# Altium schematic symbol library SchlibV0.1.SchLib: 47 symbols
Pins are listed as number, name and electrical type; pins without a type are passive.

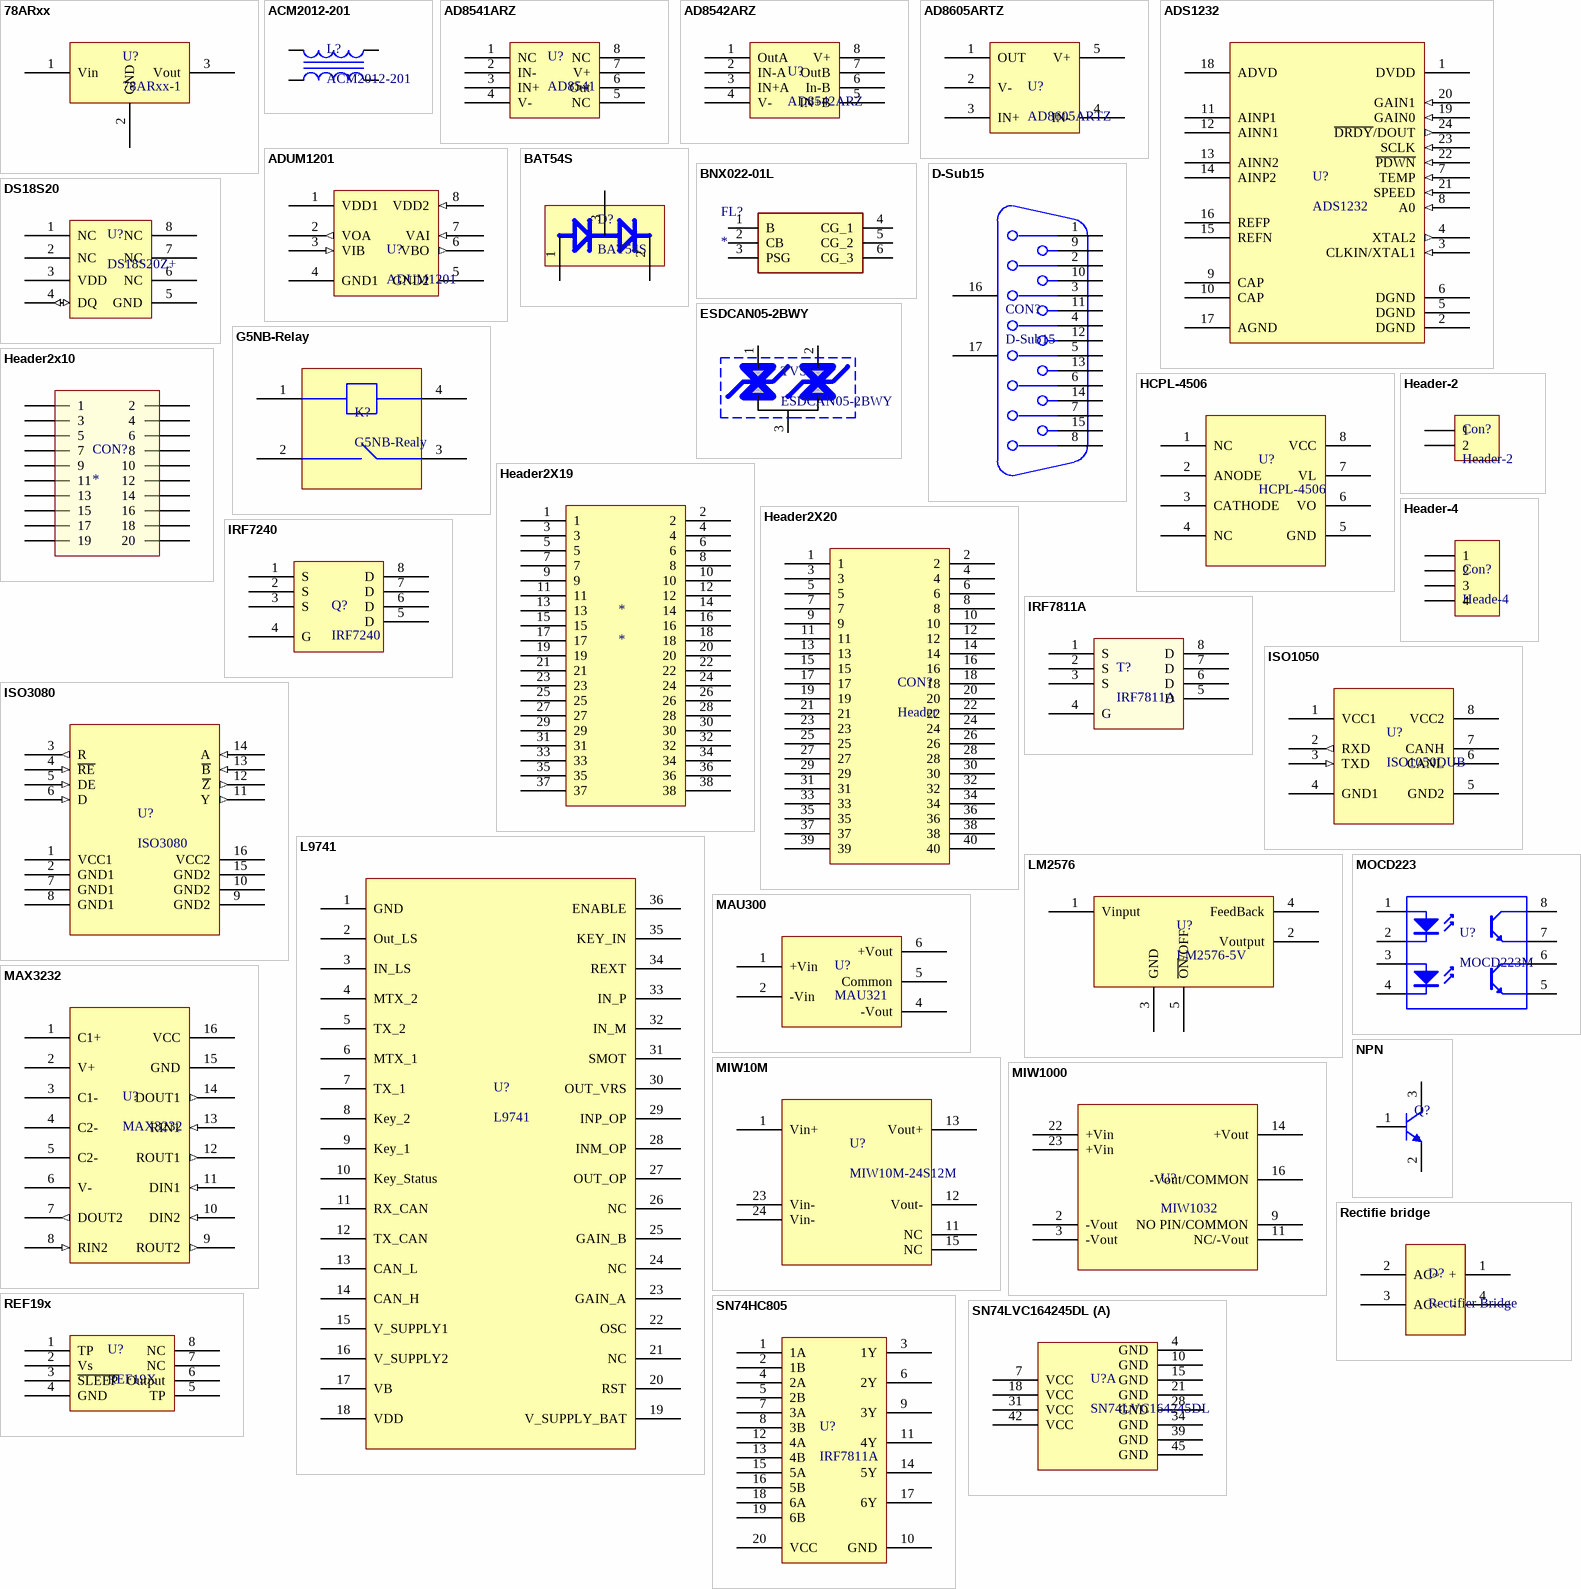
[diagram p0: symbols 78ARxx to SN74LVC164245DL]

## 78ARxx
designator U?, comment 78ARxx-1
footprint 78ARxx-1
pins: 1 Vin, 2 GND, 3 Vout

## ACM2012-201
designator L?
Common mode filters / For high-speed differential signal line
footprint CMF1812
pins: 1, 1, 2, 2

## AD8541ARZ
designator U?, comment AD8541
rail-to-rail input and output, single-supply amplifiers featuring very low supply current and 1 MHz bandwidth. All are guaranteed to operate from a 2.7 V single supply as well as a 5 V supply.
footprint SO-8
pins: 1 NC, 2 IN-, 3 IN+, 4 V-, 5 NC, 6 Out, 7 V+, 8 NC

## AD8542ARZ
designator U?
dual rail-to-rail input and output, single-supply amplifiers
footprint SO-8
pins: 1 OutA, 2 IN-A, 3 IN+A, 4 V-, 5 IN+B, 6 In-B, 7 OutB, 8 V+

## AD8605ARTZ
designator U?
footprint SOT-23-5-N
pins: 1 OUT, 2 V-, 3 IN+, 4 IN-, 5 V+

## ADS1232
designator U?
ADC 24Bit For Bridge Sensors
pins: 1  DVDD, 2 DGND, 3 CLKIN/XTAL1 (in), 4 XTAL2 (out), 5 DGND, 6 DGND, 7 TEMP (in), 8 A0 (in), 9 CAP, 10 CAP, 11 AINP1, 12 AINN1, 13 AINN2, 14 AINP2, 15 REFN, 16 REFP, 17 AGND, 18 ADVD, 19 GAIN0 (in), 20 GAIN1 (in), 21 SPEED (in), 22 ~{PDWN} (in), 23 SCLK (in), 24 ~{DRDY}/DOUT (out)

## ADUM1201
designator U?
Dual Channel Digital Isolators
footprint SO-8
pins: 1 VDD1 (power), 2 VOA (out), 3 VIB (in), 4 GND1 (power), 5 GND2 (power), 6 VBO (out), 7 VAI (in), 8 VDD2 (in)

## BAT54S
designator D?
The BAT54 series uses 40V Schottky barrier diodes
footprint SOT-23
pins: 1, 2, 3

## BNX022-01L
designator FL?
Filter; Manufacturer_Name: Murata Electronics; Manufacturer_Part_Number: BNX022-01L; Datasheet Link: https://componentsearchengine.com/Datasheets/1/BNX022-01L.pdf; Height: 3.3mm; Mouser Part Number: 81-BNX022-01L; Mouser Price/Stock: https://www.mouser.com/Search/Refine.aspx?Keyword=81-BNX022-01L
footprint BNX02201K
pins: 1 B, 2 CB, 3 PSG, 4 CG_1, 5 CG_2, 6 CG_3

## D-Sub15
designator CON?
pins: 1, 2, 3, 4, 5, 6, 7, 8, 9, 10, 11, 12, 13, 14, 15, 16, 17

## DS18S20
designator U?, comment DS18S20Z+
High-Precision 1-Wire Digital Thermometer
footprint so-8
pins: 1 NC, 2 NC, 3 VDD, 4 DQ (io), 5 GND, 6 NC, 7 NC, 8 NC

## ESDCAN05-2BWY
designator TVS?
ESD Suppressors / TVS Diodes Automotive dual-line Transil, Transient voltage suppressor (TVS) for CAN bus
footprint SOT-23
pins: 1 2, 2, 3 2

## G5NB-Relay
designator K?, comment G5NB-Realy
A Miniature Relay with 1-pole / 3A/5A Switching Capability and / 10 kV Impulse Withstand Voltage
footprint G5NB-Relay (A Miniature Relay with 1-pole / 3A/5A Switching Capability and / 10 kV Impulse Withstand Voltage)
pins: 1, 2, 3, 4

## HCPL-4506
designator U?
Fast Opto isolator
footprint SOP-8
pins: 1 NC (power), 2 ANODE, 3 CATHODE, 4 NC (power), 5 GND (power), 6 VO, 7 VL, 8 VCC

## Header2x10
designator CON?
pins: 1, 2, 3, 4, 5, 6, 7, 8, 9, 10, 11, 12, 13, 14, 15, 16, 17, 18, 19, 20

## Header2X19
designator *
pins: 1, 2, 3, 4, 5, 6, 7, 8, 9, 10, 11, 12, 13, 14, 15, 16, 17, 18, 19, 20, 21, 22, 23, 24, 25, 26, 27, 28, 29, 30, 31, 32, 33, 34, 35, 36, 37, 38

## Header2X20
designator CON?, comment Header
footprint Header2X20
pins: 1, 2, 3, 4, 5, 6, 7, 8, 9, 10, 11, 12, 13, 14, 15, 16, 17, 18, 19, 20, 21, 22, 23, 24, 25, 26, 27, 28, 29, 30, 31, 32, 33, 34, 35, 36, 37, 38, 39, 40

## Header-2
designator Con?
pins: 1, 2

## Header-4
designator Con?, comment Heade-4
pins: 1, 2, 3, 4

## IRF7240
designator Q?
Mosfet P-Channel 40V 10A
footprint SO-8
pins: 1 S, 2 S, 3 S, 4 G, 5 D, 6 D, 7 D, 8 D

## IRF7811A
designator T?
HEXFET power MOSFETs
footprint SO-8
pins: 1 S, 2 S, 3 S, 4 G, 5 D, 6 D, 7 D, 8 D

## ISO1050
designator U?, comment ISO1050DUB
Isolated CAN Transciever
footprint SOP-8
pins: 1 VCC1 (power), 2 RXD (out), 3 TXD (in), 4 GND1 (power), 5 GND2 (power), 6 CANL, 7 CANH, 8 VCC2

## ISO3080
designator U?
ISO308x Isolated 5-V Full- and Half-Duplex RS-485 Transceivers
footprint SO-16W (Footprint not found)
pins: 1 VCC1, 2 GND1, 3 R (out), 4 ~{RE} (in), 5 DE (in), 6 D (in), 7 GND1, 8 GND1, 9 GND2, 10 GND2, 11 Y (out), 12 ~{Z} (out), 13 ~{B} (in), 14 A (in), 15 GND2, 16 VCC2

## L9741
designator U?
pins: 1 GND, 2 Out_LS, 3 IN_LS, 4 MTX_2, 5 TX_2, 6 MTX_1, 7 TX_1, 8 Key_2, 9 Key_1, 10 Key_Status, 11 RX_CAN, 12 TX_CAN, 13 CAN_L, 14 CAN_H, 15 V_SUPPLY1, 16 V_SUPPLY2, 17 VB, 18 VDD, 19 V_SUPPLY_BAT, 20 RST, 21 NC, 22 OSC, 23 GAIN_A, 24 NC, 25 GAIN_B, 26 NC, 27 OUT_OP, 28 INM_OP, 29 INP_OP, 30 OUT_VRS, 31 SMOT, 32 IN_M, 33 IN_P, 34 REXT, 35 KEY_IN, 36 ENABLE

## LM2576
designator U?, comment LM2576-5V
pins: 1 Vinput, 2 Voutput, 3 GND, 4 FeedBack, 5 ~{ON}/OFF

## MAU300
designator U?, comment MAU321
24V to 3.3V DC Convertor
footprint MAU300
pins: 1 +Vin, 2 -Vin, 4 -Vout, 5 Common, 6 +Vout

## MAX3232
designator U?
3.3V RS232 Transeiver
footprint SO-16
pins: 1 C1+, 2 V+, 3 C1-, 4 C2-, 5 C2-, 6 V-, 7 DOUT2 (out), 8 RIN2 (in), 9 ROUT2 (out), 10 DIN2 (in), 11 DIN1 (in), 12 ROUT1 (out), 13 RIN1 (in), 14 DOUT1 (out), 15 GND, 16 VCC

## MIW10M
designator U?, comment MIW10M-24S12M
DC-DC CONVERTER 10W
footprint MIW10M
pins: 1 Vin+, 11 NC, 12 Vout-, 13 Vout+, 15 NC, 23 Vin-, 24 Vin-

## MIW1000
designator U?, comment MIW1032
24V to5 DC Covertor
footprint MIW1000
pins: 2 -Vout, 3 -Vout, 9 NO PIN/COMMON, 11 NC/-Vout, 14 +Vout, 16 -Vout/COMMON, 22 +Vin, 23 +Vin

## MOCD223
designator U?, comment MOCD223M
8-pin SOIC Darlington Output Optocoupler
footprint so-8
pins: 1 "Anode", 2 "Cathode", 3 "Anode", 4 "Cathode", 5 "Emitter", 6 "Collector", 7 "Emitter", 8 "Collector"

## NPN
designator Q?
footprint SOT-23
pins: 1 B, 2 E, 3 C

## Rectifie bridge
designator D?, comment Rectifier Bridge
footprint Rectifiear
pins: 1 +, 2 AC~, 3 AC~, 4 -

## REF19x
designator U?, comment REF19X
Precision Micropower, / Low Dropout Voltage References
footprint SO-8
pins: 1 TP, 2 Vs, 3 ~{SLEEP}, 4 GND, 5 TP, 6 Output, 7 NC, 8 NC

## SN74HC805
designator U?, comment IRF7811A
Six independent 2-input NOR
footprint So-20
pins: 1 1A, 2 1B, 3 1Y, 4 2A, 5 2B, 6 2Y, 7 3A, 8 3B, 9 3Y, 10 GND, 11 4Y, 12 4A, 13 4B, 14 5Y, 15 5A, 16 5B, 17 6Y, 18 6A, 19 6B, 20 VCC

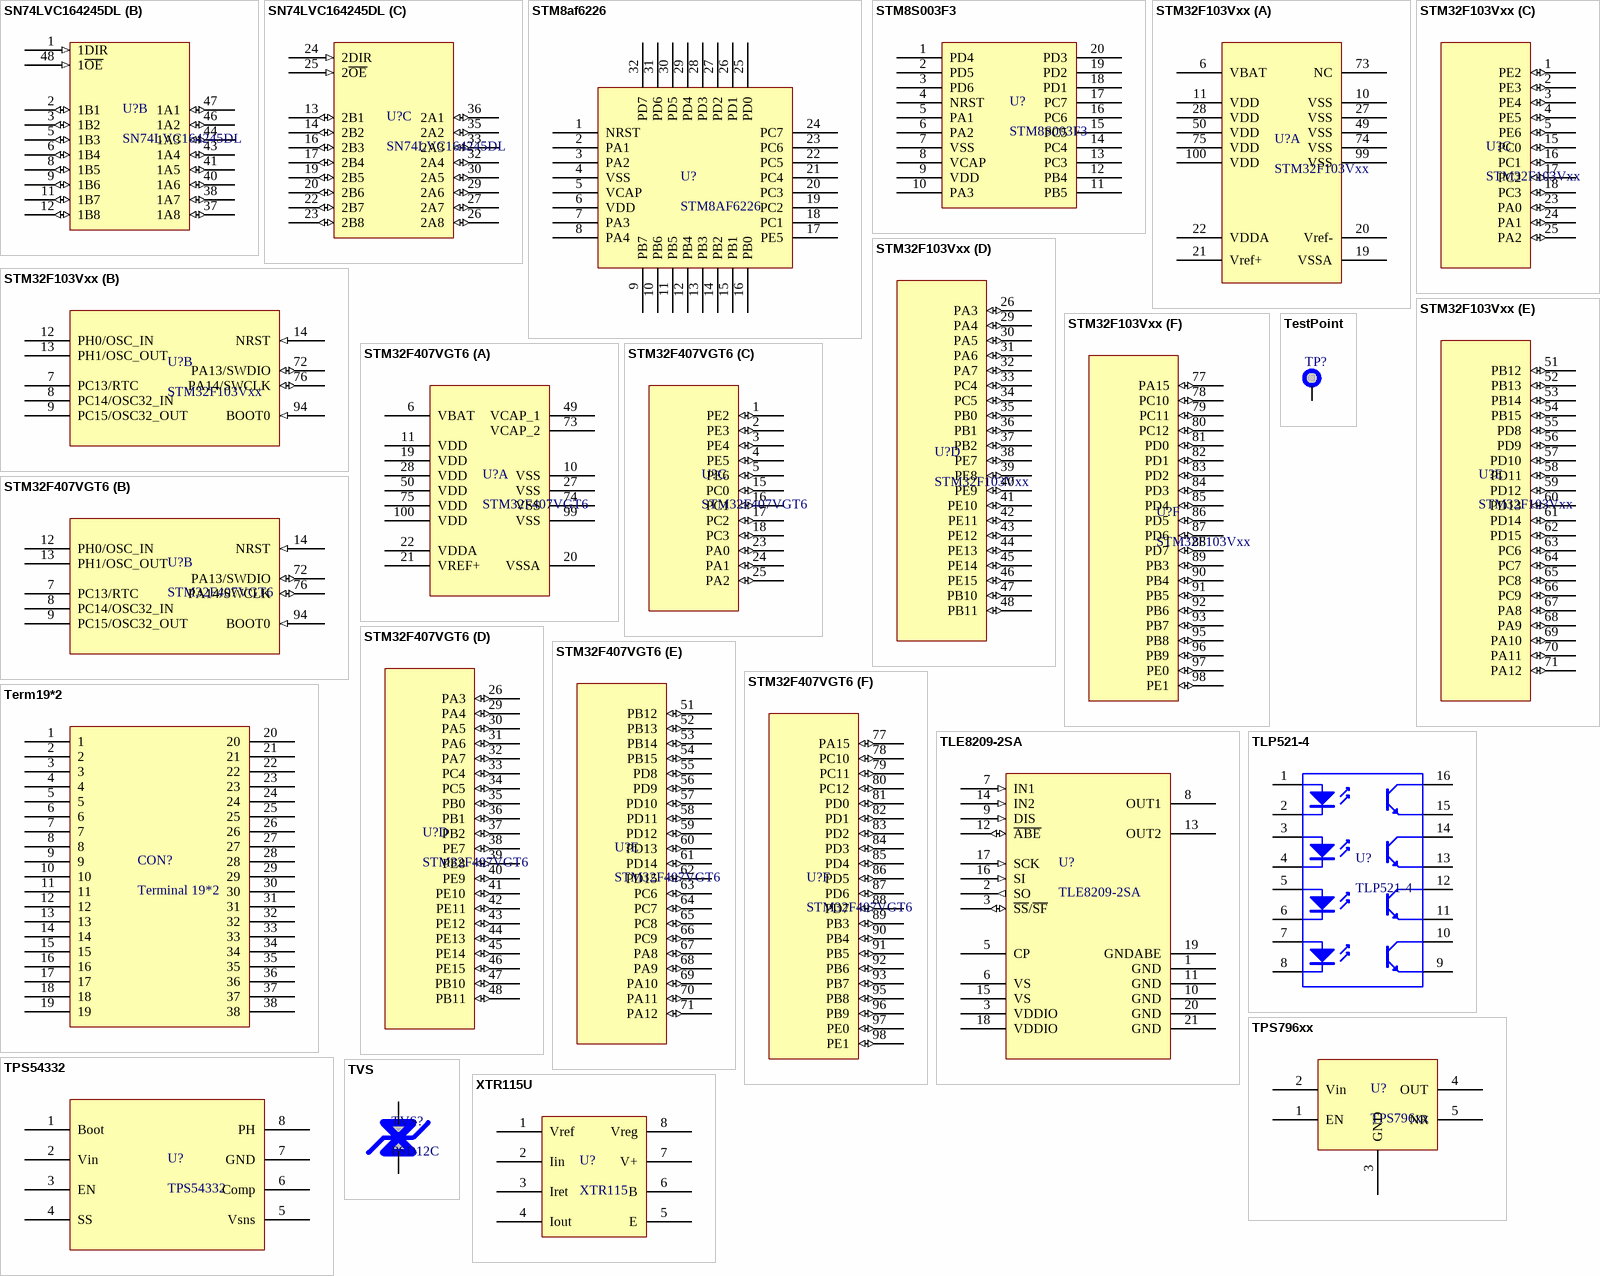
[diagram p1: symbols SN74LVC164245DL to XTR115U]

## SN74LVC164245DL
designator U?
This 16-bit (dual-octal) noninverting bus transceiver is designed for 1.65-V to 3.6-V VCC operation. The SN74LVC16245A device is designed for asynchronous communication between data buses.
footprint SSOP-48 (Footprint not found)
footprint SSOP-48
part A pins: 4 GND, 7 VCC, 10 GND, 15 GND, 18 VCC, 21 GND, 28 GND, 31 VCC, 34 GND, 39 GND, 42 VCC, 45 GND
part B pins: 1 1DIR (in), 2 1B1 (io), 3 1B2 (io), 5 1B3 (io), 6 1B4 (io), 8 1B5 (io), 9 1B6 (io), 11 1B7 (io), 12 1B8 (io), 37 1A8 (io), 38 1A7 (io), 40 1A6 (io), 41 1A5 (io), 43 1A4 (io), 44 1A3 (io), 46 1A2 (io), 47 1A1 (io), 48 1~{OE} (in)
part C pins: 13 2B1 (io), 14 2B2 (io), 16 2B3 (io), 17 2B4 (io), 19 2B5 (io), 20 2B6 (io), 22 2B7 (io), 23 2B8 (io), 24 2DIR (in), 25 2~{OE} (in), 26 2A8 (io), 27 2A7 (io), 29 2A6 (io), 30 2A5 (io), 32 2A4 (io), 33 2A3 (io), 35 2A2 (io), 36 2A1 (io)

## STM8af6226
designator U?, comment STM8AF6226
pins: 1 NRST, 2 PA1, 3 PA2, 4 VSS, 5 VCAP, 6 VDD, 7 PA3, 8 PA4, 9 PB7, 10 PB6, 11 PB5, 12 PB4, 13 PB3, 14 PB2, 15 PB1, 16 PB0, 17 PE5, 18 PC1, 19 PC2, 20 PC3, 21 PC4, 22 PC5, 23 PC6, 24 PC7, 25 PD0, 26 PD1, 27 PD2, 28 PD3, 29 PD4, 30 PD5, 31 PD6, 32 PD7

## STM8S003F3
designator U?
footprint SOP-24
pins: 1 PD4, 2 PD5, 3 PD6, 4 NRST, 5 PA1, 6 PA2, 7 VSS, 8 VCAP, 9 VDD, 10 PA3, 11 PB5, 12 PB4, 13 PC3, 14 PC4, 15 PC5, 16 PC6, 17 PC7, 18 PD1, 19 PD2, 20 PD3

## STM32F103Vxx
designator U?
part A pins: 6 VBAT (power), 10 VSS (power), 11 VDD (power), 19 VSSA (power), 20 Vref- (power), 21 Vref+ (power), 22 VDDA (power), 27 VSS (power), 28 VDD, 49 VSS (power), 50 VDD, 73 NC (power), 74 VSS (power), 75 VDD, 99 VSS (power), 100 VDD
part B pins: 7 PC13/RTC, 8 PC14/OSC32_IN, 9 PC15/OSC32_OUT, 12 PH0/OSC_IN, 13 PH1/OSC_OUT, 14 NRST (in), 72 PA13/SWDIO (io), 76 PA14/SWCLK (io), 94 BOOT0 (in)
part C pins: 1 PE2 (io), 2 PE3 (io), 3 PE4 (io), 4 PE5 (io), 5 PE6 (io), 15 PC0 (io), 16 PC1 (io), 17 PC2 (io), 18 PC3 (io), 23 PA0 (io), 24 PA1 (io), 25 PA2 (io)
part D pins: 26 PA3 (io), 29 PA4 (io), 30 PA5 (io), 31 PA6 (io), 32 PA7 (io), 33 PC4 (io), 34 PC5 (io), 35 PB0 (io), 36 PB1 (io), 37 PB2 (io), 38 PE7 (io), 39 PE8 (io), 40 PE9 (io), 41 PE10 (io), 42 PE11 (io), 43 PE12 (io), 44 PE13 (io), 45 PE14 (io), 46 PE15 (io), 47 PB10 (io), 48 PB11 (io)
part E pins: 51 PB12 (io), 52 PB13 (io), 53 PB14 (io), 54 PB15 (io), 55 PD8 (io), 56 PD9 (io), 57 PD10 (io), 58 PD11 (io), 59 PD12 (io), 60 PD13 (io), 61 PD14 (io), 62 PD15 (io), 63 PC6 (io), 64 PC7 (io), 65 PC8 (io), 66 PC9 (io), 67 PA8 (io), 68 PA9 (io), 69 PA10 (io), 70 PA11 (io), 71 PA12 (io)
part F pins: 77 PA15 (io), 78 PC10 (io), 79 PC11 (io), 80 PC12 (io), 81 PD0 (io), 82 PD1 (io), 83 PD2 (io), 84 PD3 (io), 85 PD4 (io), 86 PD5 (io), 87 PD6 (io), 88 PD7 (io), 89 PB3 (io), 90 PB4 (io), 91 PB5 (io), 92 PB6 (io), 93 PB7 (io), 95 PB8 (io), 96 PB9 (io), 97 PE0 (io), 98 PE1 (io)

## STM32F407VGT6
designator U?
STM32F407VGT FPU 168MHz
footprint LQFP-100 (Thin QFP, 100-Leads, Body 14x14mm, Pitch 0.5mm, IPC Medium Density)
part A pins: 6 VBAT (power), 10 VSS (power), 11 VDD (power), 19 VDD (power), 20 VSSA (power), 21 VREF+ (power), 22 VDDA (power), 27 VSS (power), 28 VDD, 49 VCAP_1 (power), 50 VDD, 73 VCAP_2 (power), 74 VSS (power), 75 VDD, 99 VSS (power), 100 VDD
part B pins: 7 PC13/RTC, 8 PC14/OSC32_IN, 9 PC15/OSC32_OUT, 12 PH0/OSC_IN, 13 PH1/OSC_OUT, 14 NRST (in), 72 PA13/SWDIO (io), 76 PA14/SWCLK (io), 94 BOOT0 (in)
part C pins: 1 PE2 (io), 2 PE3 (io), 3 PE4 (io), 4 PE5 (io), 5 PE6 (io), 15 PC0 (io), 16 PC1 (io), 17 PC2 (io), 18 PC3 (io), 23 PA0 (io), 24 PA1 (io), 25 PA2 (io)
part D pins: 26 PA3 (io), 29 PA4 (io), 30 PA5 (io), 31 PA6 (io), 32 PA7 (io), 33 PC4 (io), 34 PC5 (io), 35 PB0 (io), 36 PB1 (io), 37 PB2 (io), 38 PE7 (io), 39 PE8 (io), 40 PE9 (io), 41 PE10 (io), 42 PE11 (io), 43 PE12 (io), 44 PE13 (io), 45 PE14 (io), 46 PE15 (io), 47 PB10 (io), 48 PB11 (io)
part E pins: 51 PB12 (io), 52 PB13 (io), 53 PB14 (io), 54 PB15 (io), 55 PD8 (io), 56 PD9 (io), 57 PD10 (io), 58 PD11 (io), 59 PD12 (io), 60 PD13 (io), 61 PD14 (io), 62 PD15 (io), 63 PC6 (io), 64 PC7 (io), 65 PC8 (io), 66 PC9 (io), 67 PA8 (io), 68 PA9 (io), 69 PA10 (io), 70 PA11 (io), 71 PA12 (io)
part F pins: 77 PA15 (io), 78 PC10 (io), 79 PC11 (io), 80 PC12 (io), 81 PD0 (io), 82 PD1 (io), 83 PD2 (io), 84 PD3 (io), 85 PD4 (io), 86 PD5 (io), 87 PD6 (io), 88 PD7 (io), 89 PB3 (io), 90 PB4 (io), 91 PB5 (io), 92 PB6 (io), 93 PB7 (io), 95 PB8 (io), 96 PB9 (io), 97 PE0 (io), 98 PE1 (io)

## Term19*2
designator CON?, comment Terminal 19*2
footprint Term19x2
pins: 1, 2, 3, 4, 5, 6, 7, 8, 9, 10, 11, 12, 13, 14, 15, 16, 17, 18, 19, 20, 21, 22, 23, 24, 25, 26, 27, 28, 29, 30, 31, 32, 33, 34, 35, 36, 37, 38

## TestPoint
designator TP?
footprint TP
pins: 1

## TLE8209-2SA
designator U?
footprint TLE8209-2SA
pins: 1 GND, 2 SO (out), 3 ~{SS}/~{SF} (io), 3 VDDIO, 5 CP, 6 VS, 7 IN1 (in), 8 OUT1, 9 DIS (in), 10 GND, 11 GND, 12 ~{ABE} (io), 13 OUT2, 14 IN2 (in), 15 VS, 16 SI (in), 17 SCK (in), 18 VDDIO, 19 GNDABE, 20 GND, 21 GND

## TLP521-4
designator U?
PHOTOCOUPLER
footprint So-16
pins: 1 "Anode", 2 "Cathode", 3 "Anode", 4 "Cathode", 5 "Anode", 6 "Cathode", 7 "Anode", 8 "Cathode", 9 "Emitter", 10 "Collector", 11 "Emitter", 12 "Collector", 13 "Emitter", 14 "Collector", 15 "Emitter", 16 "Collector"

## TPS796xx
designator U?
footprint SOT-223-6
pins: 1 EN, 2 Vin, 3 GND, 4 OUT, 5 NR

## TPS54332
designator U?
The TPS54332 is a 28-V, 3.5-A non-synchronous buck converter that integrates a low-RDS(on) high-side MOSFET.
footprint SO-8
pins: 1 Boot, 2 Vin, 3 EN, 4 SS, 5 Vsns, 6 Comp, 7 GND, 8 PH

## TVS
designator TVS?, comment PSD12C
pins: 1, 2

## XTR115U
designator U?, comment XTR115
The XTR115 and XTR116 are precision current output / converters designed to transmit analog 4-to-20mA / signals over an industry standard current loop. They / provide accurate current scaling and output current / limit functions.
footprint SO-8
pins: 1 Vref, 2 Iin, 3 Iret, 4 Iout, 5 E, 6 B, 7 V+, 8 Vreg